# EAGLE library part DRV8312 (library ATSAM)
Half Bridge (3) Driver DC Motors, General Purpose Power MOSFET 44-HTSSOP
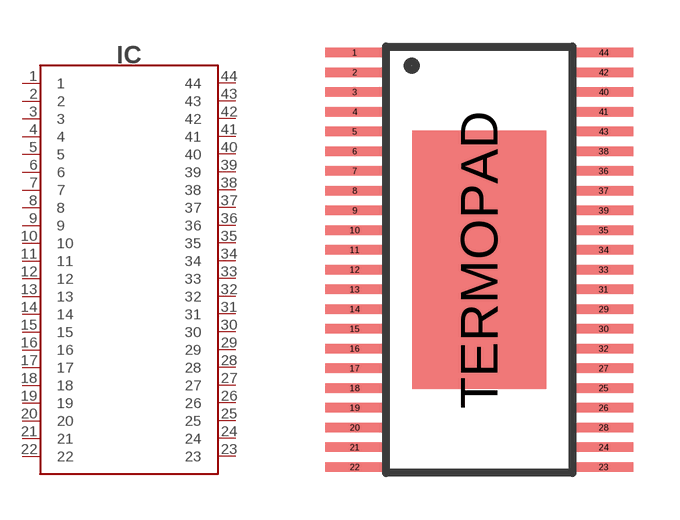
[diagram p4: symbol with the pads of HTSSOP-44; footprint HTSSOP-44]

Designator prefix IC

## DRV8312 (DIGIKEY#: 296-29649-1-ND; MANF: Texas Instruments; MANF#: DRV8312DDWR)  [HTSSOP-44]
1  1
2  2
3  3
4  4
5  5
6  6
7  7
8  8
9  9
10  10
11  11
12  12
13  13
14  14
15  15
16  16
17  17
18  18
19  19
20  20
21  21
22  22
23  23
24  24
25  25
26  26
27  27
28  28
29  29
30  30
31  31
32  32
33  33
34  34
35  35
36  36
37  37
38  38
39  39
40  40
41  41
42  42
43  43
44  44

## Footprint HTSSOP-44 (pad centres in mm)
smd 1.9 x 0.3: 1 -4,6.668; 2 -4,6.032; 3 -4,5.397; 4 -4,4.763; 5 -4,4.128; 6 -4,3.493; 7 -4,2.857; 8 -4,2.223; 9 -4,1.587; 10 -4,0.953; 11 -4,0.318; 12 -4,-0.318; 13 -4,-0.953; 14 -4,-1.587; 15 -4,-2.223; 16 -4,-2.857; 17 -4,-3.493; 18 -4,-4.128; 19 -4,-4.763; 20 -4,-5.397; 21 -4,-6.032; 22 -4,-6.668; 23 4,-6.668; 24 4,-6.032; 25 4,-4.128; 26 4,-4.763; 27 4,-3.493; 28 4,-5.397; 29 4,-1.587; 30 4,-2.223; 31 4,-0.953; 32 4,-2.857; 33 4,-0.318; 34 4,0.318; 35 4,0.953; 36 4,2.857; 37 4,2.223; 38 4,3.493; 39 4,1.587; 40 4,5.397; 41 4,4.763; 42 4,6.032; 43 4,4.128; 44 4,6.668
smd 4.3 x 8.3: TERMOPAD 0,0